# Altium schematic symbol library INA199.SchLib: 2 symbols
Pins are listed as number, name and electrical type; pins without a type are passive.

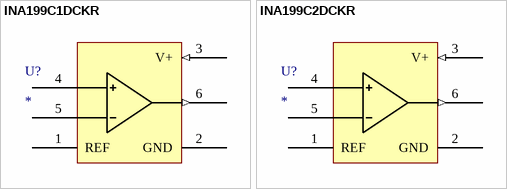
[diagram p0: symbols INA199C1DCKR to INA199C2DCKR]

## INA199C1DCKR
designator U?
26V, bi-directional, zero-drift, low-/high-side, voltage output current sense amplifier 6-SC70 -40 to 125; Manufacturer: Texas Instruments; Manufacturer Part Number: INA199C1DCKR; ComponentLink1URL: http://www.ti.com/lit/pdf/slyb194?src-supplier=Digi-Key; ComponentLink1Description: http://www.ti.com/lit/pdf/slyb194?src-supplier=Digi-Key; Supplier 1: Digi-Key; Stock 1: 2003; Pricing 1: 1 = 0.90000, 10 = 0.80200, 100 = 0.62540, 500 = 0.51664, 1000 = 0.40788 (USD); RoHS 1: No; Min Operating Temperature: -40°C; Max Operating Temperature: 125°C; Supplier Part Number 1: 296-47775-1-ND
footprint TSOP65P240X110-6M (TSOP, 6-Leads, Body 2.00x1.25mm, Pitch 0.65mm, IPC Low Density)
pins: 1 REF, 2 GND (power), 3 V+ (in), 4 IN+, 5 IN-, 6 OUT (out)

## INA199C2DCKR
designator U?
IC OP AMP CURR SENSE SC70-6; Manufacturer: Texas Instruments; Manufacturer Part Number: INA199C2DCKR; Supplier 1: Digi-Key; Stock 1: 3000; Pricing 1: 1 = 0.90000, 10 = 0.80200, 100 = 0.62540, 500 = 0.51664, 1000 = 0.40788 (USD); RoHS 1: No; Min Operating Temperature: -40°C; Max Operating Temperature: 125°C; ComponentLink1URL: http://www.ti.com/lit/pdf/slyb194?src-supplier=Digi-Key; ComponentLink1Description: http://www.ti.com/lit/pdf/slyb194?src-supplier=Digi-Key; Supplier Part Number 1: 296-49644-1-ND
footprint TSOP65P240X110-6M (TSOP, 6-Leads, Body 2.00x1.25mm, Pitch 0.65mm, IPC Low Density)
pins: 1 REF, 2 GND (power), 3 V+ (in), 4 IN+, 5 IN-, 6 OUT (out)